# Altium schematic symbol library 26-60-4020.SchLib: 1 symbol
Pins are listed as number, name and electrical type; pins without a type are passive.

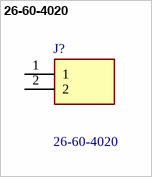
[diagram p0: symbol 26-60-4020]

## 26-60-4020
designator J?
Headers & Wire Housings VERT PCB HDR 2P TIN FRICTION LOCK; Manufacturer_Name: Molex; Geometry.Height: 11.84mm; Mouser Part Number: 538-26-60-4020; Mouser Price/Stock: https://www.mouser.co.uk/ProductDetail/Molex/26-60-4020?qs=ZwgtpdmWYYSCkM5sV%252BTTVQ%3D%3D; Manufacturer_Part_Number: 26-60-4020; Datasheet Link: https://componentsearchengine.com/Datasheets/2/26-60-4020.pdf
footprint SHDR2W155P0X396_1X2_777X1001X1184P
pins: 1, 2